# Altium schematic symbol library arduino_shield_stardard.SchLib: 1 symbol
Pins are listed as number, name and electrical type; pins without a type are passive.

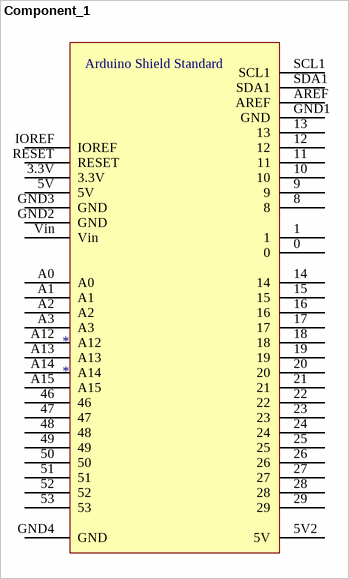
[diagram p0: symbol Component_1]

## Component_1
designator *
footprint Model Name (Footprint not found)
pins: 0, 1, 3.3V, 5V, 5V2 5V, 8, 9, 10, 11, 12, 13, 14, 15, 16, 17, 18, 19, 20, 21, 22, 23, 24, 25, 26, 27, 28, 29, 46, 47, 48, 49, 50, 51, 52, 53, A0, A1, A2, A3, A12, A13, A14, A15, AREF, GND1 GND, GND2 GND, GND3 GND, GND4 GND, IOREF, RESET, SCL1, SDA1, Vin
text: Arduino Shield Standard